# EAGLE library part AS-ITM-00017 (library tinycircuits)
CONN HEADER 16POS UNSHD VERT T/H
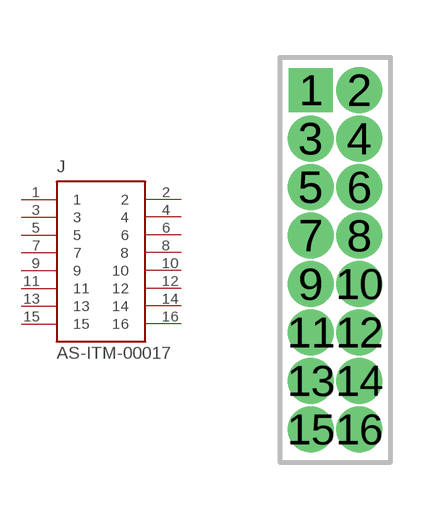
[diagram p4: symbol with the pads of GRPB082VWVN-RC; footprint GRPB082VWVN-RC]

Designator prefix J

## AS-ITM-00017 (PARTNO: AS-ITM-00017; VALUE: 20021111-00016T4LF)  [GRPB082VWVN-RC]
1  1
2  2
3  3
4  4
5  5
6  6
7  7
8  8
9  9
10  10
11  11
12  12
13  13
14  14
15  15
16  16

## Footprint GRPB082VWVN-RC (pad centres in mm)
drill 0.65 pad 1.016 square: 1 -0.635,2.54
drill 0.7 pad 1.016: 2 0.635,2.54; 3 -0.635,1.27; 4 0.635,1.27; 5 -0.635,0; 6 0.635,0; 7 -0.635,-1.27; 8 0.635,-1.27; 9 -0.635,-2.54; 10 0.635,-2.54; 11 -0.635,-3.81; 12 0.635,-3.81; 13 -0.635,-5.08; 14 0.635,-5.08; 15 -0.635,-6.35; 16 0.635,-6.35